# Altium footprint library XTAL_HC49P488W43L1105T465H1346.PcbLib: 2 footprints
Each footprint in its own frame and in the unit in brackets; x right, y up, seen from the top. Pads: shape width x height; smd on the part's side, far side on the other; paste and mask are expansions set on the pad; w line width, h text height; cw(c..) or ccw(c..) is an arc to the next point about the centre after c.
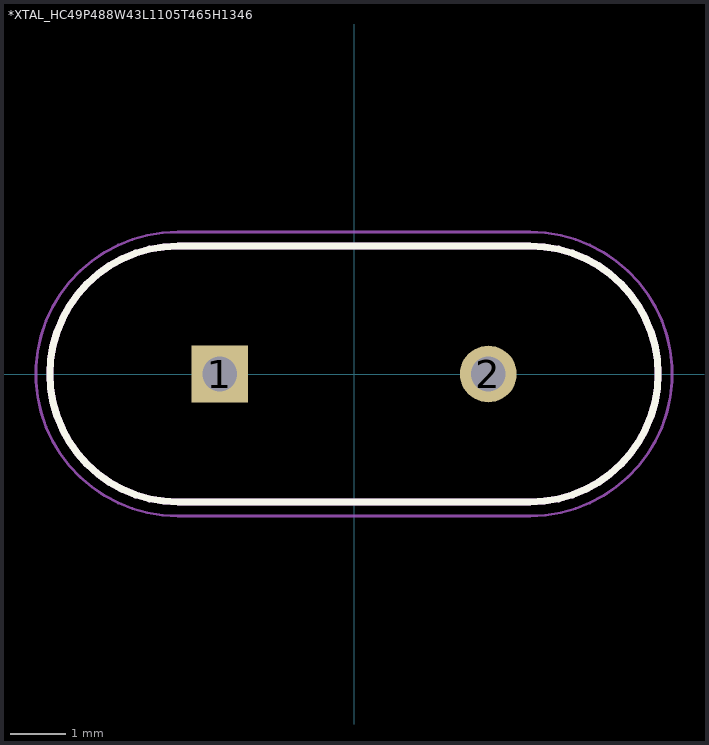
[diagram p0: the footprints below, top view; thin cyan lines are the x and y axes]

## *XTAL_HC49P488W43L1105T465H1346 [mm]
pads (2):
  rect 1.03x1.03 hole 0.63: 1(-2.44,0)
  round 1.03 hole 0.63: 2(2.44,0)
Top Overlay:
  lines w0.127: -3.2,-2.325 cw(c-3.2,0) -3.2,2.325 3.2,2.325 cw(c3.2,0) 3.2,-2.325 -3.2,-2.325
Mechanical 4:
  lines w0.127: -3.2,-2.325 cw(c-3.2,0) -3.2,2.325 ; -3.2,-2.325 cw(c-3.2,0) -3.2,2.325 ; -3.2,-2.325 3.2,-2.325 ; -3.2,-2.325 3.2,-2.325 ; -3.2,2.325 3.2,2.325 ; -3.2,2.325 3.2,2.325 ; 3.2,-2.325 ccw(c3.2,0) 3.2,2.325 ; 3.2,-2.325 ccw(c3.2,0) 3.2,2.325
Mechanical 16:
  lines w0.05: -3.2,-2.58 cw(c-3.2,0) -3.2,2.58 3.2,2.58 cw(c3.2,0) 3.2,-2.58 -3.2,-2.58

## PCBComponent_1 [mm]